# Altium schematic symbol library WR-PHD_Pin Header_2.00mm.SchLib: 63 symbols (part 1 of 2)
Pins are listed as number, name and electrical type; pins without a type are passive.

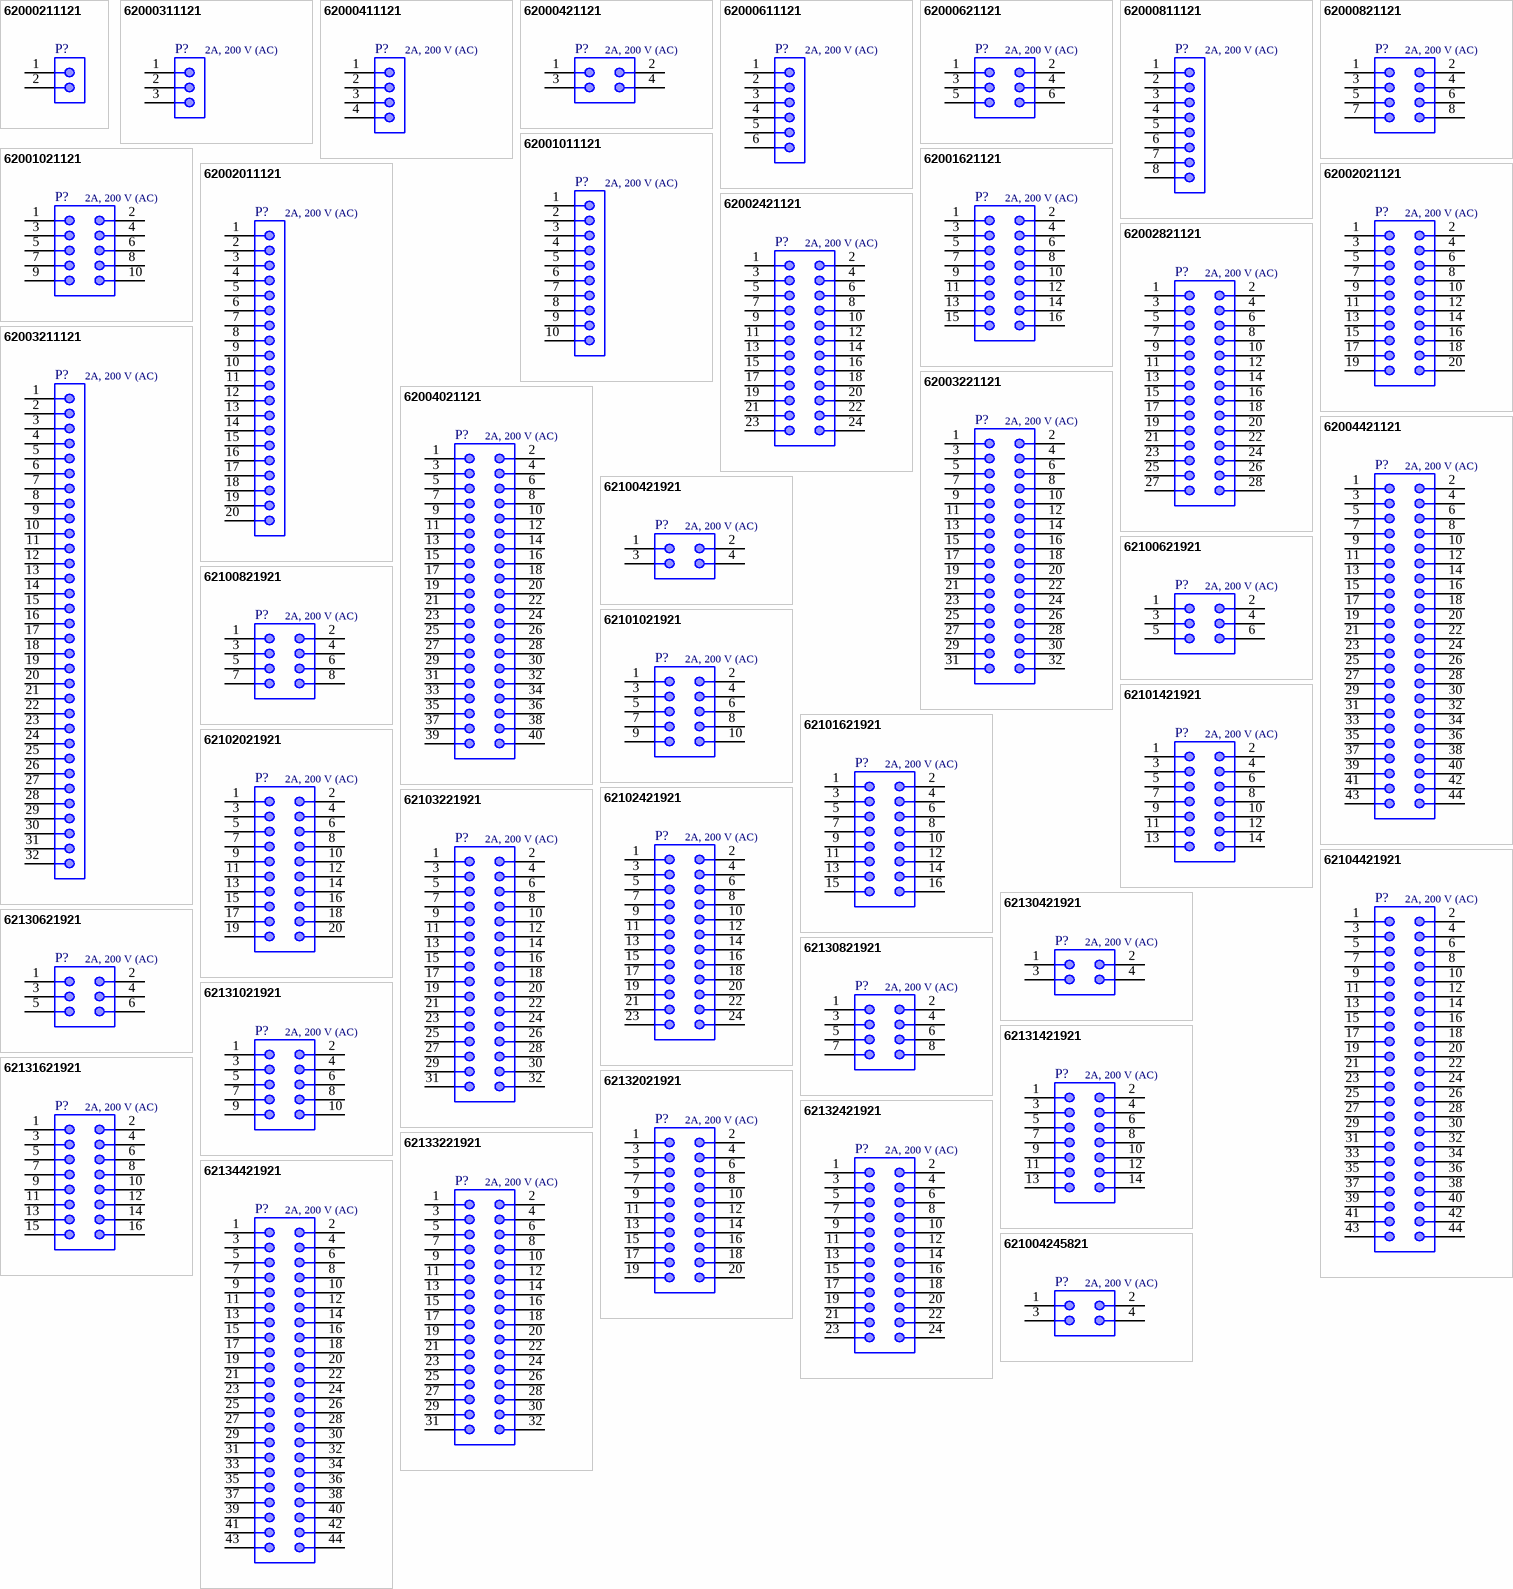
[diagram p0: symbols 62000211121 to 621004245821]

## 62000211121
designator P?
WR-PHD Pin Header, THT, pitch 2mm, Single Row, Vertical, 2p; Manufacturer: Wurth Elektronik; Manufacturer Part Number: 62000211121; Pin Number: 2; Rated Current: 2A; Working Voltage: 200VAC; Withstanding Voltage: 500VAC; Contact Resistance: 20mOhm; Value: 2A, 200 V (AC); ComponentLink1Description: Datasheet; ComponentLink1URL: https://www.we-online.com/catalog/datasheet/62000211121.pdf; Pitch: 2mm; Packaging: Bag; Gender: Pin Header; Row Number: Single; Orientation: Vertical; Supplier 1 URL: N/A; Supplier 2 URL: N/A; Supplier 3 URL: N/A; LCSC Part #: N/A; Mount: THT; Operating Temperature Max: + 105 C; Operating Temperature Min: - 40 C; Supplier 1: Mouser; Supplier 1 Part Number: N/A; Supplier 2: Digi-Key; Supplier 2 Part Number: N/A; Supplier 3: thegioiic; Supplier 3 Part Number: N/A
footprint 62000211121
pins: 1, 2

## 62000311121
designator P?, comment 2A, 200 V (AC)
WR-PHD Pin Header, THT, pitch 2mm, Single Row, Vertical, 3p; Manufacturer: Wurth Elektronik; Manufacturer Part Number: 62000311121; Pin Number: 3; Working Voltage: 200VAC; Withstanding Voltage: 500VAC; Contact Resistance: 20mOhm; ComponentLink1Description: Datasheet; ComponentLink1URL: https://www.we-online.com/catalog/datasheet/62000311121.pdf; Pitch: 2mm; Packaging: Bag; Gender: Pin Header; Rated Current: 2A; Row Number: Single; Orientation: Vertical; Supplier 1 URL: N/A; Supplier 2 URL: N/A; Supplier 3 URL: N/A; LCSC Part #: N/A; Mount: THT; Operating Temperature Max: + 105 C; Operating Temperature Min: - 40 C; Supplier 1: Mouser; Supplier 1 Part Number: N/A; Supplier 2: Digi-Key; Supplier 2 Part Number: N/A; Supplier 3: thegioiic; Supplier 3 Part Number: N/A; Value: 2A, 200 V (AC)
footprint 62000311121
pins: 1, 2, 3

## 62000411121
designator P?, comment 2A, 200 V (AC)
WR-PHD Pin Header, THT, pitch 2mm, Single Row, Vertical, 4p; Manufacturer: Wurth Elektronik; Manufacturer Part Number: 62000411121; Pin Number: 4; Working Voltage: 200VAC; Withstanding Voltage: 500VAC; Contact Resistance: 20mOhm; ComponentLink1Description: Datasheet; ComponentLink1URL: https://www.we-online.com/catalog/datasheet/62000411121.pdf; Pitch: 2mm; Packaging: Bag; Gender: Pin Header; Rated Current: 2A; Row Number: Single; Orientation: Vertical; Supplier 1 URL: N/A; Supplier 2 URL: N/A; Supplier 3 URL: N/A; LCSC Part #: N/A; Mount: THT; Operating Temperature Max: + 105 C; Operating Temperature Min: - 40 C; Supplier 1: Mouser; Supplier 1 Part Number: N/A; Supplier 2: Digi-Key; Supplier 2 Part Number: N/A; Supplier 3: thegioiic; Supplier 3 Part Number: N/A; Value: 2A, 200 V (AC)
footprint 62000411121
pins: 1, 2, 3, 4

## 62000421121
designator P?, comment 2A, 200 V (AC)
WR-PHD Pin Header, THT, pitch 2mm, Dual Row, Vertical, 4p; Manufacturer: Wurth Elektronik; Manufacturer Part Number: 62000421121; Pin Number: 4; Working Voltage: 200VAC; Withstanding Voltage: 500VAC; Contact Resistance: 20mOhm; ComponentLink1Description: Datasheet; ComponentLink1URL: https://www.we-online.com/catalog/datasheet/62000421121.pdf; Pitch: 2mm; Packaging: Bag; Gender: Pin Header; Rated Current: 2A; Row Number: Dual; Orientation: Vertical; Supplier 1 URL: N/A; Supplier 2 URL: N/A; Supplier 3 URL: N/A; LCSC Part #: N/A; Mount: THT; Operating Temperature Max: + 105 C; Operating Temperature Min: - 40 C; Supplier 1: Mouser; Supplier 1 Part Number: N/A; Supplier 2: Digi-Key; Supplier 2 Part Number: N/A; Supplier 3: thegioiic; Supplier 3 Part Number: N/A; Value: 2A, 200 V (AC)
footprint 62000421121
pins: 1, 2, 3, 4

## 62000611121
designator P?, comment 2A, 200 V (AC)
WR-PHD Pin Header, THT, pitch 2mm, Single Row, Vertical, 6p; Manufacturer: Wurth Elektronik; Manufacturer Part Number: 62000611121; Pin Number: 6; Working Voltage: 200VAC; Withstanding Voltage: 500VAC; Contact Resistance: 20mOhm; ComponentLink1Description: Datasheet; ComponentLink1URL: https://www.we-online.com/catalog/datasheet/62000611121.pdf; Pitch: 2mm; Packaging: Bag; Gender: Pin Header; Rated Current: 2A; Row Number: Single; Orientation: Vertical; Supplier 1 URL: N/A; Supplier 2 URL: N/A; Supplier 3 URL: N/A; LCSC Part #: N/A; Mount: THT; Operating Temperature Max: + 105 C; Operating Temperature Min: - 40 C; Supplier 1: Mouser; Supplier 1 Part Number: N/A; Supplier 2: Digi-Key; Supplier 2 Part Number: N/A; Supplier 3: thegioiic; Supplier 3 Part Number: N/A; Value: 2A, 200 V (AC)
footprint 62000611121
pins: 1, 2, 3, 4, 5, 6

## 62000621121
designator P?, comment 2A, 200 V (AC)
WR-PHD Pin Header, THT, pitch 2mm, Dual Row, Vertical, 6p; Manufacturer: Wurth Elektronik; Manufacturer Part Number: 62000621121; Pin Number: 6; Working Voltage: 200VAC; Withstanding Voltage: 500VAC; Contact Resistance: 20mOhm; ComponentLink1Description: Datasheet; ComponentLink1URL: https://www.we-online.com/catalog/datasheet/62000621121.pdf; Pitch: 2mm; Packaging: Bag; Gender: Pin Header; Rated Current: 2A; Row Number: Dual; Orientation: Vertical; Supplier 1 URL: N/A; Supplier 2 URL: N/A; Supplier 3 URL: N/A; LCSC Part #: N/A; Mount: THT; Operating Temperature Max: + 105 C; Operating Temperature Min: - 40 C; Supplier 1: Mouser; Supplier 1 Part Number: N/A; Supplier 2: Digi-Key; Supplier 2 Part Number: N/A; Supplier 3: thegioiic; Supplier 3 Part Number: N/A; Value: 2A, 200 V (AC)
footprint 62000621121
pins: 1, 2, 3, 4, 5, 6

## 62000811121
designator P?, comment 2A, 200 V (AC)
WR-PHD Pin Header, THT, pitch 2mm, Single Row, Vertical, 8p; Manufacturer: Wurth Elektronik; Manufacturer Part Number: 62000811121; Pin Number: 8; Working Voltage: 200VAC; Withstanding Voltage: 500VAC; Contact Resistance: 20mOhm; ComponentLink1Description: Datasheet; ComponentLink1URL: https://www.we-online.com/catalog/datasheet/62000811121.pdf; Pitch: 2mm; Packaging: Bag; Gender: Pin Header; Rated Current: 2A; Row Number: Single; Orientation: Vertical; Supplier 1 URL: N/A; Supplier 2 URL: N/A; Supplier 3 URL: N/A; LCSC Part #: N/A; Mount: THT; Operating Temperature Max: + 105 C; Operating Temperature Min: - 40 C; Supplier 1: Mouser; Supplier 1 Part Number: N/A; Supplier 2: Digi-Key; Supplier 2 Part Number: N/A; Supplier 3: thegioiic; Supplier 3 Part Number: N/A; Value: 2A, 200 V (AC)
footprint 62000811121
pins: 1, 2, 3, 4, 5, 6, 7, 8

## 62000821121
designator P?, comment 2A, 200 V (AC)
WR-PHD Pin Header, THT, pitch 2mm, Dual Row, Vertical, 8p; Manufacturer: Wurth Elektronik; Manufacturer Part Number: 62000821121; Pin Number: 8; Working Voltage: 200VAC; Withstanding Voltage: 500VAC; Contact Resistance: 20mOhm; ComponentLink1Description: Datasheet; ComponentLink1URL: https://www.we-online.com/catalog/datasheet/62000821121.pdf; Pitch: 2mm; Packaging: Bag; Gender: Pin Header; Rated Current: 2A; Row Number: Dual; Orientation: Vertical; Supplier 1 URL: N/A; Supplier 2 URL: N/A; Supplier 3 URL: N/A; LCSC Part #: N/A; Mount: THT; Operating Temperature Max: + 105 C; Operating Temperature Min: - 40 C; Supplier 1: Mouser; Supplier 1 Part Number: N/A; Supplier 2: Digi-Key; Supplier 2 Part Number: N/A; Supplier 3: thegioiic; Supplier 3 Part Number: N/A; Value: 2A, 200 V (AC)
footprint 62000821121
pins: 1, 2, 3, 4, 5, 6, 7, 8

## 62001011121
designator P?, comment 2A, 200 V (AC)
WR-PHD Pin Header, THT, pitch 2mm, Single Row, Vertical, 10p; Manufacturer: Wurth Elektronik; Manufacturer Part Number: 62001011121; Pin Number: 10; Working Voltage: 200VAC; Withstanding Voltage: 500VAC; Contact Resistance: 20mOhm; ComponentLink1Description: Datasheet; ComponentLink1URL: https://www.we-online.com/catalog/datasheet/62001011121.pdf; Pitch: 2mm; Packaging: Bag; Gender: Pin Header; Rated Current: 2A; Row Number: Single; Orientation: Vertical; Supplier 1 URL: N/A; Supplier 2 URL: N/A; Supplier 3 URL: N/A; LCSC Part #: N/A; Mount: THT; Operating Temperature Max: + 105 C; Operating Temperature Min: - 40 C; Supplier 1: Mouser; Supplier 1 Part Number: N/A; Supplier 2: Digi-Key; Supplier 2 Part Number: N/A; Supplier 3: thegioiic; Supplier 3 Part Number: N/A; Value: 2A, 200 V (AC)
footprint 62001011121
pins: 1, 2, 3, 4, 5, 6, 7, 8, 9, 10

## 62001021121
designator P?, comment 2A, 200 V (AC)
WR-PHD Pin Header, THT, pitch 2mm, Dual Row, Vertical, 10p; Manufacturer: Wurth Elektronik; Manufacturer Part Number: 62001021121; Pin Number: 10; Working Voltage: 200VAC; Withstanding Voltage: 500VAC; Contact Resistance: 20mOhm; ComponentLink1Description: Datasheet; ComponentLink1URL: https://www.we-online.com/catalog/datasheet/62001021121.pdf; Pitch: 2mm; Packaging: Bag; Gender: Pin Header; Rated Current: 2A; Row Number: Dual; Orientation: Vertical; Supplier 1 URL: N/A; Supplier 2 URL: N/A; Supplier 3 URL: N/A; LCSC Part #: N/A; Mount: THT; Operating Temperature Max: + 105 C; Operating Temperature Min: - 40 C; Supplier 1: Mouser; Supplier 1 Part Number: N/A; Supplier 2: Digi-Key; Supplier 2 Part Number: N/A; Supplier 3: thegioiic; Supplier 3 Part Number: N/A; Value: 2A, 200 V (AC)
footprint 62001021121
pins: 1, 2, 3, 4, 5, 6, 7, 8, 9, 10

## 62001621121
designator P?, comment 2A, 200 V (AC)
WR-PHD Pin Header, THT, pitch 2mm, Dual Row, Vertical, 16p; Manufacturer: Wurth Elektronik; Manufacturer Part Number: 62001621121; Pin Number: 16; Working Voltage: 200VAC; Withstanding Voltage: 500VAC; Contact Resistance: 20mOhm; ComponentLink1Description: Datasheet; ComponentLink1URL: https://www.we-online.com/catalog/datasheet/62001621121.pdf; Pitch: 2mm; Packaging: Bag; Gender: Pin Header; Rated Current: 2A; Row Number: Dual; Orientation: Vertical; Supplier 1 URL: N/A; Supplier 2 URL: N/A; Supplier 3 URL: N/A; LCSC Part #: N/A; Mount: THT; Operating Temperature Max: + 105 C; Operating Temperature Min: - 40 C; Supplier 1: Mouser; Supplier 1 Part Number: N/A; Supplier 2: Digi-Key; Supplier 2 Part Number: N/A; Supplier 3: thegioiic; Supplier 3 Part Number: N/A; Value: 2A, 200 V (AC)
footprint 62001621121
pins: 1, 2, 3, 4, 5, 6, 7, 8, 9, 10, 11, 12, 13, 14, 15, 16

## 62002011121
designator P?, comment 2A, 200 V (AC)
WR-PHD Pin Header, THT, pitch 2mm, Single Row, Vertical, 20p; Manufacturer: Wurth Elektronik; Manufacturer Part Number: 62002011121; Pin Number: 20; Working Voltage: 200VAC; Withstanding Voltage: 500VAC; Contact Resistance: 20mOhm; ComponentLink1Description: Datasheet; ComponentLink1URL: https://www.we-online.com/catalog/datasheet/62002011121.pdf; Pitch: 2mm; Packaging: Bag; Gender: Pin Header; Rated Current: 2A; Row Number: Single; Orientation: Vertical; Supplier 1 URL: N/A; Supplier 2 URL: N/A; Supplier 3 URL: N/A; LCSC Part #: N/A; Mount: THT; Operating Temperature Max: + 105 C; Operating Temperature Min: - 40 C; Supplier 1: Mouser; Supplier 1 Part Number: N/A; Supplier 2: Digi-Key; Supplier 2 Part Number: N/A; Supplier 3: thegioiic; Supplier 3 Part Number: N/A; Value: 2A, 200 V (AC)
footprint 62002011121
pins: 1, 2, 3, 4, 5, 6, 7, 8, 9, 10, 11, 12, 13, 14, 15, 16, 17, 18, 19, 20

## 62002021121
designator P?, comment 2A, 200 V (AC)
WR-PHD Pin Header, THT, pitch 2mm, Dual Row, Vertical, 20p; Manufacturer: Wurth Elektronik; Manufacturer Part Number: 62002021121; Pin Number: 20; Working Voltage: 200VAC; Withstanding Voltage: 500VAC; Contact Resistance: 20mOhm; ComponentLink1Description: Datasheet; ComponentLink1URL: https://www.we-online.com/catalog/datasheet/62002021121.pdf; Pitch: 2mm; Packaging: Bag; Gender: Pin Header; Rated Current: 2A; Row Number: Dual; Orientation: Vertical; Supplier 1 URL: N/A; Supplier 2 URL: N/A; Supplier 3 URL: N/A; LCSC Part #: N/A; Mount: THT; Operating Temperature Max: + 105 C; Operating Temperature Min: - 40 C; Supplier 1: Mouser; Supplier 1 Part Number: N/A; Supplier 2: Digi-Key; Supplier 2 Part Number: N/A; Supplier 3: thegioiic; Supplier 3 Part Number: N/A; Value: 2A, 200 V (AC)
footprint 62002021121
pins: 1, 2, 3, 4, 5, 6, 7, 8, 9, 10, 11, 12, 13, 14, 15, 16, 17, 18, 19, 20

## 62002421121
designator P?, comment 2A, 200 V (AC)
WR-PHD Pin Header, THT, pitch 2mm, Dual Row, Vertical, 24p; Manufacturer: Wurth Elektronik; Manufacturer Part Number: 62002421121; Pin Number: 24; Working Voltage: 200VAC; Withstanding Voltage: 500VAC; Contact Resistance: 20mOhm; ComponentLink1Description: Datasheet; ComponentLink1URL: https://www.we-online.com/catalog/datasheet/62002421121.pdf; Pitch: 2mm; Packaging: Bag; Gender: Pin Header; Rated Current: 2A; Row Number: Dual; Orientation: Vertical; Supplier 1 URL: N/A; Supplier 2 URL: N/A; Supplier 3 URL: N/A; LCSC Part #: N/A; Mount: THT; Operating Temperature Max: + 105 C; Operating Temperature Min: - 40 C; Supplier 1: Mouser; Supplier 1 Part Number: N/A; Supplier 2: Digi-Key; Supplier 2 Part Number: N/A; Supplier 3: thegioiic; Supplier 3 Part Number: N/A; Value: 2A, 200 V (AC)
footprint 62002421121
pins: 1, 2, 3, 4, 5, 6, 7, 8, 9, 10, 11, 12, 13, 14, 15, 16, 17, 18, 19, 20, 21, 22, 23, 24

## 62002821121
designator P?, comment 2A, 200 V (AC)
WR-PHD Pin Header, THT, pitch 2mm, Dual Row, Vertical, 28p; Manufacturer: Wurth Elektronik; Manufacturer Part Number: 62002821121; Pin Number: 28; Working Voltage: 200VAC; Withstanding Voltage: 500VAC; Contact Resistance: 20mOhm; ComponentLink1Description: Datasheet; ComponentLink1URL: https://www.we-online.com/catalog/datasheet/62002821121.pdf; Pitch: 2mm; Packaging: Bag; Gender: Pin Header; Rated Current: 2A; Row Number: Dual; Orientation: Vertical; Supplier 1 URL: N/A; Supplier 2 URL: N/A; Supplier 3 URL: N/A; LCSC Part #: N/A; Mount: THT; Operating Temperature Max: + 105 C; Operating Temperature Min: - 40 C; Supplier 1: Mouser; Supplier 1 Part Number: N/A; Supplier 2: Digi-Key; Supplier 2 Part Number: N/A; Supplier 3: thegioiic; Supplier 3 Part Number: N/A; Value: 2A, 200 V (AC)
footprint 62002821121
pins: 1, 2, 3, 4, 5, 6, 7, 8, 9, 10, 11, 12, 13, 14, 15, 16, 17, 18, 19, 20, 21, 22, 23, 24, 25, 26, 27, 28

## 62003211121
designator P?, comment 2A, 200 V (AC)
WR-PHD Pin Header, THT, pitch 2mm, Single Row, Vertical, 32p; Manufacturer: Wurth Elektronik; Manufacturer Part Number: 62003211121; Pin Number: 32; Working Voltage: 200VAC; Withstanding Voltage: 500VAC; Contact Resistance: 20mOhm; ComponentLink1Description: Datasheet; ComponentLink1URL: https://www.we-online.com/catalog/datasheet/62003211121.pdf; Pitch: 2mm; Packaging: Bag; Gender: Pin Header; Rated Current: 2A; Row Number: Single; Orientation: Vertical; Supplier 1 URL: N/A; Supplier 2 URL: N/A; Supplier 3 URL: N/A; LCSC Part #: N/A; Mount: THT; Operating Temperature Max: + 105 C; Operating Temperature Min: - 40 C; Supplier 1: Mouser; Supplier 1 Part Number: N/A; Supplier 2: Digi-Key; Supplier 2 Part Number: N/A; Supplier 3: thegioiic; Supplier 3 Part Number: N/A; Value: 2A, 200 V (AC)
footprint 62003211121
pins: 1, 2, 3, 4, 5, 6, 7, 8, 9, 10, 11, 12, 13, 14, 15, 16, 17, 18, 19, 20, 21, 22, 23, 24, 25, 26, 27, 28, 29, 30, 31, 32

## 62003221121
designator P?, comment 2A, 200 V (AC)
WR-PHD Pin Header, THT, pitch 2mm, Dual Row, Vertical, 32p; Manufacturer: Wurth Elektronik; Manufacturer Part Number: 62003221121; Pin Number: 32; Working Voltage: 200VAC; Withstanding Voltage: 500VAC; Contact Resistance: 20mOhm; ComponentLink1Description: Datasheet; ComponentLink1URL: https://www.we-online.com/catalog/datasheet/62003221121.pdf; Pitch: 2mm; Packaging: Bag; Gender: Pin Header; Rated Current: 2A; Row Number: Dual; Orientation: Vertical; Supplier 1 URL: N/A; Supplier 2 URL: N/A; Supplier 3 URL: N/A; LCSC Part #: N/A; Mount: THT; Operating Temperature Max: + 105 C; Operating Temperature Min: - 40 C; Supplier 1: Mouser; Supplier 1 Part Number: N/A; Supplier 2: Digi-Key; Supplier 2 Part Number: N/A; Supplier 3: thegioiic; Supplier 3 Part Number: N/A; Value: 2A, 200 V (AC)
footprint 62003221121
pins: 1, 2, 3, 4, 5, 6, 7, 8, 9, 10, 11, 12, 13, 14, 15, 16, 17, 18, 19, 20, 21, 22, 23, 24, 25, 26, 27, 28, 29, 30, 31, 32

## 62004021121
designator P?, comment 2A, 200 V (AC)
WR-PHD Pin Header, THT, pitch 2mm, Dual Row, Vertical, 40p; Manufacturer: Wurth Elektronik; Manufacturer Part Number: 62004021121; Pin Number: 40; Working Voltage: 200VAC; Withstanding Voltage: 500VAC; Contact Resistance: 20mOhm; ComponentLink1Description: Datasheet; ComponentLink1URL: https://www.we-online.com/catalog/datasheet/62004021121.pdf; Pitch: 2mm; Packaging: Bag; Gender: Pin Header; Rated Current: 2A; Row Number: Dual; Orientation: Vertical; Supplier 1 URL: N/A; Supplier 2 URL: N/A; Supplier 3 URL: N/A; LCSC Part #: N/A; Mount: THT; Operating Temperature Max: + 105 C; Operating Temperature Min: - 40 C; Supplier 1: Mouser; Supplier 1 Part Number: N/A; Supplier 2: Digi-Key; Supplier 2 Part Number: N/A; Supplier 3: thegioiic; Supplier 3 Part Number: N/A; Value: 2A, 200 V (AC)
footprint 62004021121
pins: 1, 2, 3, 4, 5, 6, 7, 8, 9, 10, 11, 12, 13, 14, 15, 16, 17, 18, 19, 20, 21, 22, 23, 24, 25, 26, 27, 28, 29, 30, 31, 32, 33, 34, 35, 36, 37, 38, 39, 40

## 62004421121
designator P?, comment 2A, 200 V (AC)
WR-PHD Pin Header, THT, pitch 2mm, Dual Row, Vertical, 44p; Manufacturer: Wurth Elektronik; Manufacturer Part Number: 62004421121; Pin Number: 44; Working Voltage: 200VAC; Withstanding Voltage: 500VAC; Contact Resistance: 20mOhm; ComponentLink1Description: Datasheet; ComponentLink1URL: https://www.we-online.com/catalog/datasheet/62004421121.pdf; Pitch: 2mm; Packaging: Bag; Gender: Pin Header; Rated Current: 2A; Row Number: Dual; Orientation: Vertical; Supplier 1 URL: N/A; Supplier 2 URL: N/A; Supplier 3 URL: N/A; LCSC Part #: N/A; Mount: THT; Operating Temperature Max: + 105 C; Operating Temperature Min: - 40 C; Supplier 1: Mouser; Supplier 1 Part Number: N/A; Supplier 2: Digi-Key; Supplier 2 Part Number: N/A; Supplier 3: thegioiic; Supplier 3 Part Number: N/A; Value: 2A, 200 V (AC)
footprint 62004421121
pins: 1, 2, 3, 4, 5, 6, 7, 8, 9, 10, 11, 12, 13, 14, 15, 16, 17, 18, 19, 20, 21, 22, 23, 24, 25, 26, 27, 28, 29, 30, 31, 32, 33, 34, 35, 36, 37, 38, 39, 40, 41, 42, 43, 44

## 62100421921
designator P?, comment 2A, 200 V (AC)
WR-PHD Pin Header, SMT, pitch 2mm, Dual Row, Vertical, 4p; Manufacturer: Wurth Elektronik; Manufacturer Part Number: 62100421921; Pin Number: 4; Working Voltage: 200VAC; Withstanding Voltage: 500VAC; Contact Resistance: 20mOhm; ComponentLink1Description: Datasheet; ComponentLink1URL: https://www.we-online.com/catalog/datasheet/62100421921.pdf; Pitch: 2mm; Packaging: Tube; Gender: Pin Header; Rated Current: 2A; Row Number: Dual; Orientation: Vertical; Supplier 1 URL: N/A; Supplier 2 URL: N/A; Supplier 3 URL: N/A; LCSC Part #: N/A; Mount: SMD/SMT; Operating Temperature Max: + 105 C; Operating Temperature Min: - 40 C; Supplier 1: Mouser; Supplier 1 Part Number: N/A; Supplier 2: Digi-Key; Supplier 2 Part Number: N/A; Supplier 3: thegioiic; Supplier 3 Part Number: N/A; Value: 2A, 200 V (AC)
footprint 62100421921
pins: 1, 2, 3, 4

## 62100621921
designator P?, comment 2A, 200 V (AC)
WR-PHD Pin Header, SMT, pitch 2mm, Dual Row, Vertical, 6p; Manufacturer: Wurth Elektronik; Manufacturer Part Number: 62100621921; Pin Number: 6; Working Voltage: 200VAC; Withstanding Voltage: 500VAC; Contact Resistance: 20mOhm; ComponentLink1Description: Datasheet; ComponentLink1URL: https://www.we-online.com/catalog/datasheet/62100621921.pdf; Pitch: 2mm; Packaging: Tube; Gender: Pin Header; Rated Current: 2A; Row Number: Dual; Orientation: Vertical; Supplier 1 URL: N/A; Supplier 2 URL: N/A; Supplier 3 URL: N/A; LCSC Part #: N/A; Mount: SMD/SMT; Operating Temperature Max: + 105 C; Operating Temperature Min: - 40 C; Supplier 1: Mouser; Supplier 1 Part Number: N/A; Supplier 2: Digi-Key; Supplier 2 Part Number: N/A; Supplier 3: thegioiic; Supplier 3 Part Number: N/A; Value: 2A, 200 V (AC)
footprint 62100621921
pins: 1, 2, 3, 4, 5, 6

## 62100821921
designator P?, comment 2A, 200 V (AC)
WR-PHD Pin Header, SMT, pitch 2mm, Dual Row, Vertical, 8p; Manufacturer: Wurth Elektronik; Manufacturer Part Number: 62100821921; Pin Number: 8; Working Voltage: 200VAC; Withstanding Voltage: 500VAC; Contact Resistance: 20mOhm; ComponentLink1Description: Datasheet; ComponentLink1URL: https://www.we-online.com/catalog/datasheet/62100821921.pdf; Pitch: 2mm; Packaging: Tube; Gender: Pin Header; Rated Current: 2A; Row Number: Dual; Orientation: Vertical; Supplier 1 URL: N/A; Supplier 2 URL: N/A; Supplier 3 URL: N/A; LCSC Part #: N/A; Mount: SMD/SMT; Operating Temperature Max: + 105 C; Operating Temperature Min: - 40 C; Supplier 1: Mouser; Supplier 1 Part Number: N/A; Supplier 2: Digi-Key; Supplier 2 Part Number: N/A; Supplier 3: thegioiic; Supplier 3 Part Number: N/A; Value: 2A, 200 V (AC)
footprint 62100821921
pins: 1, 2, 3, 4, 5, 6, 7, 8

## 62101021921
designator P?, comment 2A, 200 V (AC)
WR-PHD Pin Header, SMT, pitch 2mm, Dual Row, Vertical, 10p; Manufacturer: Wurth Elektronik; Manufacturer Part Number: 62101021921; Pin Number: 10; Working Voltage: 200VAC; Withstanding Voltage: 500VAC; Contact Resistance: 20mOhm; ComponentLink1Description: Datasheet; ComponentLink1URL: https://www.we-online.com/catalog/datasheet/62101021921.pdf; Pitch: 2mm; Packaging: Tube; Gender: Pin Header; Rated Current: 2A; Row Number: Dual; Orientation: Vertical; Supplier 1 URL: N/A; Supplier 2 URL: N/A; Supplier 3 URL: N/A; LCSC Part #: N/A; Mount: SMD/SMT; Operating Temperature Max: + 105 C; Operating Temperature Min: - 40 C; Supplier 1: Mouser; Supplier 1 Part Number: N/A; Supplier 2: Digi-Key; Supplier 2 Part Number: N/A; Supplier 3: thegioiic; Supplier 3 Part Number: N/A; Value: 2A, 200 V (AC)
footprint 62101021921
pins: 1, 2, 3, 4, 5, 6, 7, 8, 9, 10

## 62101421921
designator P?, comment 2A, 200 V (AC)
WR-PHD Pin Header, SMT, pitch 2mm, Dual Row, Vertical, 14p; Manufacturer: Wurth Elektronik; Manufacturer Part Number: 62101421921; Pin Number: 14; Working Voltage: 200VAC; Withstanding Voltage: 500VAC; Contact Resistance: 20mOhm; ComponentLink1Description: Datasheet; ComponentLink1URL: https://www.we-online.com/catalog/datasheet/62101421921.pdf; Pitch: 2mm; Packaging: Tube; Gender: Pin Header; Rated Current: 2A; Row Number: Dual; Orientation: Vertical; Supplier 1 URL: N/A; Supplier 2 URL: N/A; Supplier 3 URL: N/A; LCSC Part #: N/A; Mount: SMD/SMT; Operating Temperature Max: + 105 C; Operating Temperature Min: - 40 C; Supplier 1: Mouser; Supplier 1 Part Number: N/A; Supplier 2: Digi-Key; Supplier 2 Part Number: N/A; Supplier 3: thegioiic; Supplier 3 Part Number: N/A; Value: 2A, 200 V (AC)
footprint 62101421921
pins: 1, 2, 3, 4, 5, 6, 7, 8, 9, 10, 11, 12, 13, 14

## 62101621921
designator P?, comment 2A, 200 V (AC)
WR-PHD Pin Header, SMT, pitch 2mm, Dual Row, Vertical, 16p; Manufacturer: Wurth Elektronik; Manufacturer Part Number: 62101621921; Pin Number: 16; Working Voltage: 200VAC; Withstanding Voltage: 500VAC; Contact Resistance: 20mOhm; ComponentLink1Description: Datasheet; ComponentLink1URL: https://www.we-online.com/catalog/datasheet/62101621921.pdf; Pitch: 2mm; Packaging: Tube; Gender: Pin Header; Rated Current: 2A; Row Number: Dual; Orientation: Vertical; Supplier 1 URL: N/A; Supplier 2 URL: N/A; Supplier 3 URL: N/A; LCSC Part #: N/A; Mount: SMD/SMT; Operating Temperature Max: + 105 C; Operating Temperature Min: - 40 C; Supplier 1: Mouser; Supplier 1 Part Number: N/A; Supplier 2: Digi-Key; Supplier 2 Part Number: N/A; Supplier 3: thegioiic; Supplier 3 Part Number: N/A; Value: 2A, 200 V (AC)
footprint 62101621921
pins: 1, 2, 3, 4, 5, 6, 7, 8, 9, 10, 11, 12, 13, 14, 15, 16

## 62102021921
designator P?, comment 2A, 200 V (AC)
WR-PHD Pin Header, SMT, pitch 2mm, Dual Row, Vertical, 20p; Manufacturer: Wurth Elektronik; Manufacturer Part Number: 62102021921; Pin Number: 20; Working Voltage: 200VAC; Withstanding Voltage: 500VAC; Contact Resistance: 20mOhm; ComponentLink1Description: Datasheet; ComponentLink1URL: https://www.we-online.com/catalog/datasheet/62102021921.pdf; Pitch: 2mm; Packaging: Tube; Gender: Pin Header; Rated Current: 2A; Row Number: Dual; Orientation: Vertical; Supplier 1 URL: N/A; Supplier 2 URL: N/A; Supplier 3 URL: N/A; LCSC Part #: N/A; Mount: SMD/SMT; Operating Temperature Max: + 105 C; Operating Temperature Min: - 40 C; Supplier 1: Mouser; Supplier 1 Part Number: N/A; Supplier 2: Digi-Key; Supplier 2 Part Number: N/A; Supplier 3: thegioiic; Supplier 3 Part Number: N/A; Value: 2A, 200 V (AC)
footprint 62102021921
pins: 1, 2, 3, 4, 5, 6, 7, 8, 9, 10, 11, 12, 13, 14, 15, 16, 17, 18, 19, 20

## 62102421921
designator P?, comment 2A, 200 V (AC)
WR-PHD Pin Header, SMT, pitch 2mm, Dual Row, Vertical, 24p; Manufacturer: Wurth Elektronik; Manufacturer Part Number: 62102421921; Pin Number: 24; Working Voltage: 200VAC; Withstanding Voltage: 500VAC; Contact Resistance: 20mOhm; ComponentLink1Description: Datasheet; ComponentLink1URL: https://www.we-online.com/catalog/datasheet/62102421921.pdf; Pitch: 2mm; Packaging: Tube; Gender: Pin Header; Rated Current: 2A; Row Number: Dual; Orientation: Vertical; Supplier 1 URL: N/A; Supplier 2 URL: N/A; Supplier 3 URL: N/A; LCSC Part #: N/A; Mount: SMD/SMT; Operating Temperature Max: + 105 C; Operating Temperature Min: - 40 C; Supplier 1: Mouser; Supplier 1 Part Number: N/A; Supplier 2: Digi-Key; Supplier 2 Part Number: N/A; Supplier 3: thegioiic; Supplier 3 Part Number: N/A; Value: 2A, 200 V (AC)
footprint 62102421921
pins: 1, 2, 3, 4, 5, 6, 7, 8, 9, 10, 11, 12, 13, 14, 15, 16, 17, 18, 19, 20, 21, 22, 23, 24

## 62103221921
designator P?, comment 2A, 200 V (AC)
WR-PHD Pin Header, SMT, pitch 2mm, Dual Row, Vertical, 32p; Manufacturer: Wurth Elektronik; Manufacturer Part Number: 62103221921; Pin Number: 32; Working Voltage: 200VAC; Withstanding Voltage: 500VAC; Contact Resistance: 20mOhm; ComponentLink1Description: Datasheet; ComponentLink1URL: https://www.we-online.com/catalog/datasheet/62103221921.pdf; Pitch: 2mm; Packaging: Tube; Gender: Pin Header; Rated Current: 2A; Row Number: Dual; Orientation: Vertical; Supplier 1 URL: N/A; Supplier 2 URL: N/A; Supplier 3 URL: N/A; LCSC Part #: N/A; Mount: SMD/SMT; Operating Temperature Max: + 105 C; Operating Temperature Min: - 40 C; Supplier 1: Mouser; Supplier 1 Part Number: N/A; Supplier 2: Digi-Key; Supplier 2 Part Number: N/A; Supplier 3: thegioiic; Supplier 3 Part Number: N/A; Value: 2A, 200 V (AC)
footprint 62103221921
pins: 1, 2, 3, 4, 5, 6, 7, 8, 9, 10, 11, 12, 13, 14, 15, 16, 17, 18, 19, 20, 21, 22, 23, 24, 25, 26, 27, 28, 29, 30, 31, 32

## 62104421921
designator P?, comment 2A, 200 V (AC)
WR-PHD Pin Header, SMT, pitch 2mm, Dual Row, Vertical, 44p; Manufacturer: Wurth Elektronik; Manufacturer Part Number: 62104421921; Pin Number: 44; Working Voltage: 200VAC; Withstanding Voltage: 500VAC; Contact Resistance: 20mOhm; ComponentLink1Description: Datasheet; ComponentLink1URL: https://www.we-online.com/catalog/datasheet/62104421921.pdf; Pitch: 2mm; Packaging: Tube; Gender: Pin Header; Rated Current: 2A; Row Number: Dual; Orientation: Vertical; Supplier 1 URL: N/A; Supplier 2 URL: N/A; Supplier 3 URL: N/A; LCSC Part #: N/A; Mount: SMD/SMT; Operating Temperature Max: + 105 C; Operating Temperature Min: - 40 C; Supplier 1: Mouser; Supplier 1 Part Number: N/A; Supplier 2: Digi-Key; Supplier 2 Part Number: N/A; Supplier 3: thegioiic; Supplier 3 Part Number: N/A; Value: 2A, 200 V (AC)
footprint 62104421921
pins: 1, 2, 3, 4, 5, 6, 7, 8, 9, 10, 11, 12, 13, 14, 15, 16, 17, 18, 19, 20, 21, 22, 23, 24, 25, 26, 27, 28, 29, 30, 31, 32, 33, 34, 35, 36, 37, 38, 39, 40, 41, 42, 43, 44

## 62130421921
designator P?, comment 2A, 200 V (AC)
WR-PHD Pin Header, SMT, pitch 2mm, Dual Row, Vertical, 4p; Manufacturer: Wurth Elektronik; Manufacturer Part Number: 62130421921; Pin Number: 4; Working Voltage: 200VAC; Withstanding Voltage: 500VAC; Contact Resistance: 20mOhm; ComponentLink1Description: Datasheet; ComponentLink1URL: https://www.we-online.com/catalog/datasheet/62130421921.pdf; Pitch: 2mm; Packaging: Tape and Reel; Gender: Pin Header; Rated Current: 2A; Row Number: Dual; Orientation: Vertical; Supplier 1 URL: N/A; Supplier 2 URL: N/A; Supplier 3 URL: N/A; LCSC Part #: N/A; Mount: SMD/SMT; Operating Temperature Max: + 105 C; Operating Temperature Min: - 40 C; Supplier 1: Mouser; Supplier 1 Part Number: N/A; Supplier 2: Digi-Key; Supplier 2 Part Number: N/A; Supplier 3: thegioiic; Supplier 3 Part Number: N/A; Value: 2A, 200 V (AC)
footprint 62130421921
pins: 1, 2, 3, 4

## 62130621921
designator P?, comment 2A, 200 V (AC)
WR-PHD Pin Header, SMT, pitch 2mm, Dual Row, Vertical, 6p; Manufacturer: Wurth Elektronik; Manufacturer Part Number: 62130621921; Pin Number: 6; Working Voltage: 200VAC; Withstanding Voltage: 500VAC; Contact Resistance: 20mOhm; ComponentLink1Description: Datasheet; ComponentLink1URL: https://www.we-online.com/catalog/datasheet/62130621921.pdf; Pitch: 2mm; Packaging: Tape and Reel; Gender: Pin Header; Rated Current: 2A; Row Number: Dual; Orientation: Vertical; Supplier 1 URL: N/A; Supplier 2 URL: N/A; Supplier 3 URL: N/A; LCSC Part #: N/A; Mount: SMD/SMT; Operating Temperature Max: + 105 C; Operating Temperature Min: - 40 C; Supplier 1: Mouser; Supplier 1 Part Number: N/A; Supplier 2: Digi-Key; Supplier 2 Part Number: N/A; Supplier 3: thegioiic; Supplier 3 Part Number: N/A; Value: 2A, 200 V (AC)
footprint 62130621921
pins: 1, 2, 3, 4, 5, 6

## 62130821921
designator P?, comment 2A, 200 V (AC)
WR-PHD Pin Header, SMT, pitch 2mm, Dual Row, Vertical, 8p; Manufacturer: Wurth Elektronik; Manufacturer Part Number: 62130821921; Pin Number: 8; Working Voltage: 200VAC; Withstanding Voltage: 500VAC; Contact Resistance: 20mOhm; ComponentLink1Description: Datasheet; ComponentLink1URL: https://www.we-online.com/catalog/datasheet/62130821921.pdf; Pitch: 2mm; Packaging: Tape and Reel; Gender: Pin Header; Rated Current: 2A; Row Number: Dual; Orientation: Vertical; Supplier 1 URL: N/A; Supplier 2 URL: N/A; Supplier 3 URL: N/A; LCSC Part #: N/A; Mount: SMD/SMT; Operating Temperature Max: + 105 C; Operating Temperature Min: - 40 C; Supplier 1: Mouser; Supplier 1 Part Number: N/A; Supplier 2: Digi-Key; Supplier 2 Part Number: N/A; Supplier 3: thegioiic; Supplier 3 Part Number: N/A; Value: 2A, 200 V (AC)
footprint 62130821921
pins: 1, 2, 3, 4, 5, 6, 7, 8

## 62131021921
designator P?, comment 2A, 200 V (AC)
WR-PHD Pin Header, SMT, pitch 2mm, Dual Row, Vertical, 10p; Manufacturer: Wurth Elektronik; Manufacturer Part Number: 62131021921; Pin Number: 10; Working Voltage: 200VAC; Withstanding Voltage: 500VAC; Contact Resistance: 20mOhm; ComponentLink1Description: Datasheet; ComponentLink1URL: https://www.we-online.com/catalog/datasheet/62131021921.pdf; Pitch: 2mm; Packaging: Tape and Reel; Gender: Pin Header; Rated Current: 2A; Row Number: Dual; Orientation: Vertical; Supplier 1 URL: N/A; Supplier 2 URL: N/A; Supplier 3 URL: N/A; LCSC Part #: N/A; Mount: SMD/SMT; Operating Temperature Max: + 105 C; Operating Temperature Min: - 40 C; Supplier 1: Mouser; Supplier 1 Part Number: N/A; Supplier 2: Digi-Key; Supplier 2 Part Number: N/A; Supplier 3: thegioiic; Supplier 3 Part Number: N/A; Value: 2A, 200 V (AC)
footprint 62131021921
pins: 1, 2, 3, 4, 5, 6, 7, 8, 9, 10

## 62131421921
designator P?, comment 2A, 200 V (AC)
WR-PHD Pin Header, SMT, pitch 2mm, Dual Row, Vertical, 14p; Manufacturer: Wurth Elektronik; Manufacturer Part Number: 62131421921; Pin Number: 14; Working Voltage: 200VAC; Withstanding Voltage: 500VAC; Contact Resistance: 20mOhm; ComponentLink1Description: Datasheet; ComponentLink1URL: https://www.we-online.com/catalog/datasheet/62131421921.pdf; Pitch: 2mm; Packaging: Tape and Reel; Gender: Pin Header; Rated Current: 2A; Row Number: Dual; Orientation: Vertical; Supplier 1 URL: N/A; Supplier 2 URL: N/A; Supplier 3 URL: N/A; LCSC Part #: N/A; Mount: SMD/SMT; Operating Temperature Max: + 105 C; Operating Temperature Min: - 40 C; Supplier 1: Mouser; Supplier 1 Part Number: N/A; Supplier 2: Digi-Key; Supplier 2 Part Number: N/A; Supplier 3: thegioiic; Supplier 3 Part Number: N/A; Value: 2A, 200 V (AC)
footprint 62131421921
pins: 1, 2, 3, 4, 5, 6, 7, 8, 9, 10, 11, 12, 13, 14

## 62131621921
designator P?, comment 2A, 200 V (AC)
WR-PHD Pin Header, SMT, pitch 2mm, Dual Row, Vertical, 16p; Manufacturer: Wurth Elektronik; Manufacturer Part Number: 62131621921; Pin Number: 16; Working Voltage: 200VAC; Withstanding Voltage: 500VAC; Contact Resistance: 20mOhm; ComponentLink1Description: Datasheet; ComponentLink1URL: https://www.we-online.com/catalog/datasheet/62131621921.pdf; Pitch: 2mm; Packaging: Tape and Reel; Gender: Pin Header; Rated Current: 2A; Row Number: Dual; Orientation: Vertical; Supplier 1 URL: N/A; Supplier 2 URL: N/A; Supplier 3 URL: N/A; LCSC Part #: N/A; Mount: SMD/SMT; Operating Temperature Max: + 105 C; Operating Temperature Min: - 40 C; Supplier 1: Mouser; Supplier 1 Part Number: N/A; Supplier 2: Digi-Key; Supplier 2 Part Number: N/A; Supplier 3: thegioiic; Supplier 3 Part Number: N/A; Value: 2A, 200 V (AC)
footprint 62131621921
pins: 1, 2, 3, 4, 5, 6, 7, 8, 9, 10, 11, 12, 13, 14, 15, 16

## 62132021921
designator P?, comment 2A, 200 V (AC)
WR-PHD Pin Header, SMT, pitch 2mm, Dual Row, Vertical, 20p; Manufacturer: Wurth Elektronik; Manufacturer Part Number: 62132021921; Pin Number: 20; Working Voltage: 200VAC; Withstanding Voltage: 500VAC; Contact Resistance: 20mOhm; ComponentLink1Description: Datasheet; ComponentLink1URL: https://www.we-online.com/catalog/datasheet/62132021921.pdf; Pitch: 2mm; Packaging: Tape and Reel; Gender: Pin Header; Rated Current: 2A; Row Number: Dual; Orientation: Vertical; Supplier 1 URL: N/A; Supplier 2 URL: N/A; Supplier 3 URL: N/A; LCSC Part #: N/A; Mount: SMD/SMT; Operating Temperature Max: + 105 C; Operating Temperature Min: - 40 C; Supplier 1: Mouser; Supplier 1 Part Number: N/A; Supplier 2: Digi-Key; Supplier 2 Part Number: N/A; Supplier 3: thegioiic; Supplier 3 Part Number: N/A; Value: 2A, 200 V (AC)
footprint 62132021921
pins: 1, 2, 3, 4, 5, 6, 7, 8, 9, 10, 11, 12, 13, 14, 15, 16, 17, 18, 19, 20

## 62132421921
designator P?, comment 2A, 200 V (AC)
WR-PHD Pin Header, SMT, pitch 2mm, Dual Row, Vertical, 24p; Manufacturer: Wurth Elektronik; Manufacturer Part Number: 62132421921; Pin Number: 24; Working Voltage: 200VAC; Withstanding Voltage: 500VAC; Contact Resistance: 20mOhm; ComponentLink1Description: Datasheet; ComponentLink1URL: https://www.we-online.com/catalog/datasheet/62132421921.pdf; Pitch: 2mm; Packaging: Tape and Reel; Gender: Pin Header; Rated Current: 2A; Row Number: Dual; Orientation: Vertical; Supplier 1 URL: N/A; Supplier 2 URL: N/A; Supplier 3 URL: N/A; LCSC Part #: N/A; Mount: SMD/SMT; Operating Temperature Max: + 105 C; Operating Temperature Min: - 40 C; Supplier 1: Mouser; Supplier 1 Part Number: N/A; Supplier 2: Digi-Key; Supplier 2 Part Number: N/A; Supplier 3: thegioiic; Supplier 3 Part Number: N/A; Value: 2A, 200 V (AC)
footprint 62132421921
pins: 1, 2, 3, 4, 5, 6, 7, 8, 9, 10, 11, 12, 13, 14, 15, 16, 17, 18, 19, 20, 21, 22, 23, 24

## 62133221921
designator P?, comment 2A, 200 V (AC)
WR-PHD Pin Header, SMT, pitch 2mm, Dual Row, Vertical, 32p; Manufacturer: Wurth Elektronik; Manufacturer Part Number: 62133221921; Pin Number: 32; Working Voltage: 200VAC; Withstanding Voltage: 500VAC; Contact Resistance: 20mOhm; ComponentLink1Description: Datasheet; ComponentLink1URL: https://www.we-online.com/catalog/datasheet/62133221921.pdf; Pitch: 2mm; Packaging: Tape and Reel; Gender: Pin Header; Rated Current: 2A; Row Number: Dual; Orientation: Vertical; Supplier 1 URL: N/A; Supplier 2 URL: N/A; Supplier 3 URL: N/A; LCSC Part #: N/A; Mount: SMD/SMT; Operating Temperature Max: + 105 C; Operating Temperature Min: - 40 C; Supplier 1: Mouser; Supplier 1 Part Number: N/A; Supplier 2: Digi-Key; Supplier 2 Part Number: N/A; Supplier 3: thegioiic; Supplier 3 Part Number: N/A; Value: 2A, 200 V (AC)
footprint 62133221921
pins: 1, 2, 3, 4, 5, 6, 7, 8, 9, 10, 11, 12, 13, 14, 15, 16, 17, 18, 19, 20, 21, 22, 23, 24, 25, 26, 27, 28, 29, 30, 31, 32

## 62134421921
designator P?, comment 2A, 200 V (AC)
WR-PHD Pin Header, SMT, pitch 2mm, Dual Row, Vertical, 44p; Manufacturer: Wurth Elektronik; Manufacturer Part Number: 62134421921; Pin Number: 44; Working Voltage: 200VAC; Withstanding Voltage: 500VAC; Contact Resistance: 20mOhm; ComponentLink1Description: Datasheet; ComponentLink1URL: https://www.we-online.com/catalog/datasheet/62134421921.pdf; Pitch: 2mm; Packaging: Tape and Reel; Gender: Pin Header; Rated Current: 2A; Row Number: Dual; Orientation: Vertical; Supplier 1 URL: N/A; Supplier 2 URL: N/A; Supplier 3 URL: N/A; LCSC Part #: N/A; Mount: SMD/SMT; Operating Temperature Max: + 105 C; Operating Temperature Min: - 40 C; Supplier 1: Mouser; Supplier 1 Part Number: N/A; Supplier 2: Digi-Key; Supplier 2 Part Number: N/A; Supplier 3: thegioiic; Supplier 3 Part Number: N/A; Value: 2A, 200 V (AC)
footprint 62134421921
pins: 1, 2, 3, 4, 5, 6, 7, 8, 9, 10, 11, 12, 13, 14, 15, 16, 17, 18, 19, 20, 21, 22, 23, 24, 25, 26, 27, 28, 29, 30, 31, 32, 33, 34, 35, 36, 37, 38, 39, 40, 41, 42, 43, 44

## 621004245821
designator P?, comment 2A, 200 V (AC)
WR-PHD Pin Header, SMT, pitch 2mm, Dual Row, Vertical, 4p; Manufacturer: Wurth Elektronik; Manufacturer Part Number: 621004245821; Pin Number: 4; Working Voltage: 200VAC; Withstanding Voltage: 500VAC; Contact Resistance: 20mOhm; ComponentLink1Description: Datasheet; ComponentLink1URL: https://www.we-online.com/catalog/datasheet/621004245821.pdf; Pitch: 2mm; Packaging: Tube; Gender: Pin Header; Rated Current: 2A; Row Number: Dual; Orientation: Vertical; Supplier 1 URL: N/A; Supplier 2 URL: N/A; Supplier 3 URL: N/A; LCSC Part #: N/A; Mount: SMD/SMT; Operating Temperature Max: + 105 C; Operating Temperature Min: - 40 C; Supplier 1: Mouser; Supplier 1 Part Number: N/A; Supplier 2: Digi-Key; Supplier 2 Part Number: N/A; Supplier 3: thegioiic; Supplier 3 Part Number: N/A; Value: 2A, 200 V (AC)
footprint 621004245821
pins: 1, 2, 3, 4

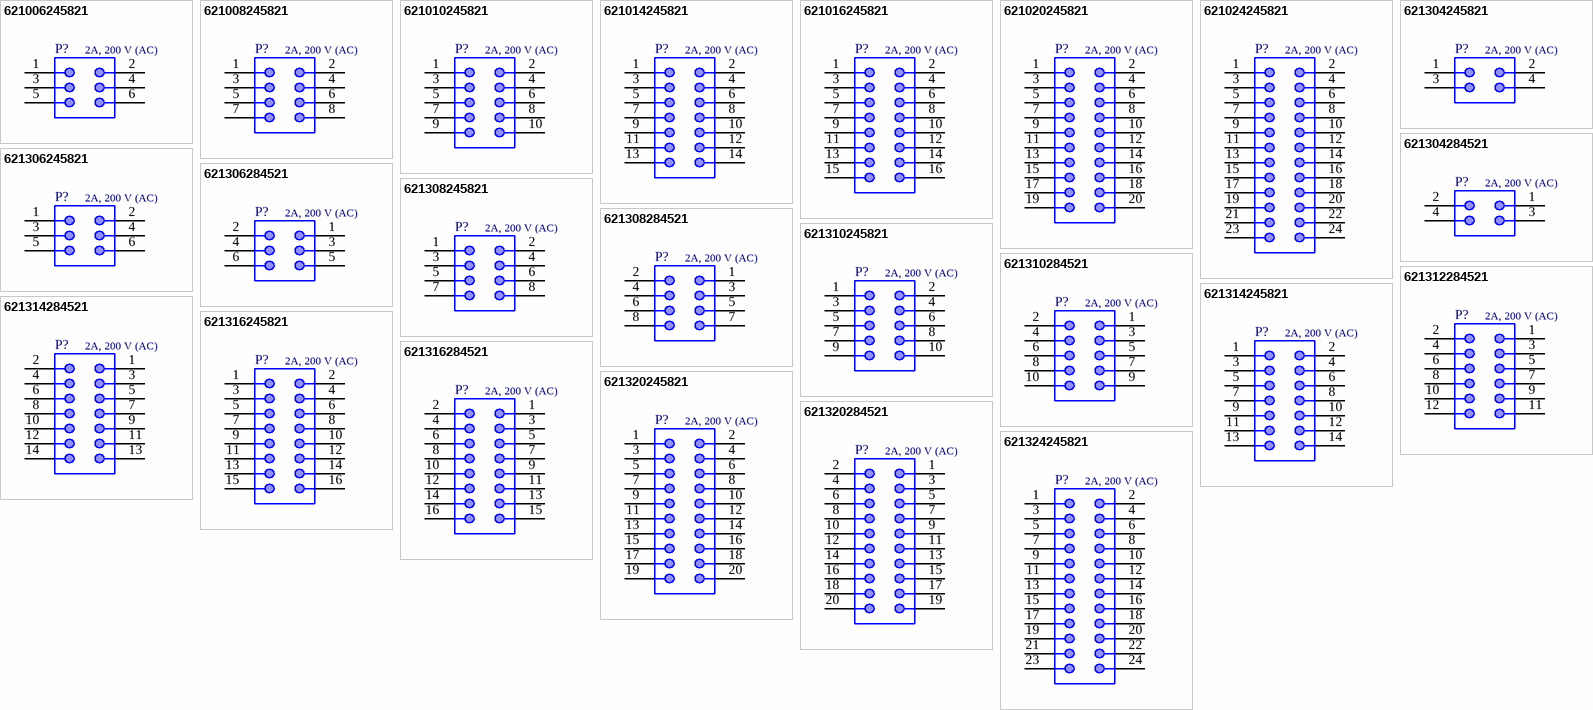
[diagram p1: symbols 621006245821 to 621324245821]

## 621006245821
designator P?, comment 2A, 200 V (AC)
WR-PHD Pin Header, SMT, pitch 2mm, Dual Row, Vertical, 6p; Manufacturer: Wurth Elektronik; Manufacturer Part Number: 621006245821; Pin Number: 6; Working Voltage: 200VAC; Withstanding Voltage: 500VAC; Contact Resistance: 20mOhm; ComponentLink1Description: Datasheet; ComponentLink1URL: https://www.we-online.com/catalog/datasheet/621006245821.pdf; Pitch: 2mm; Packaging: Tube; Gender: Pin Header; Rated Current: 2A; Row Number: Dual; Orientation: Vertical; Supplier 1 URL: N/A; Supplier 2 URL: N/A; Supplier 3 URL: N/A; LCSC Part #: N/A; Mount: SMD/SMT; Operating Temperature Max: + 105 C; Operating Temperature Min: - 40 C; Supplier 1: Mouser; Supplier 1 Part Number: N/A; Supplier 2: Digi-Key; Supplier 2 Part Number: N/A; Supplier 3: thegioiic; Supplier 3 Part Number: N/A; Value: 2A, 200 V (AC)
footprint 621006245821
pins: 1, 2, 3, 4, 5, 6

## 621008245821
designator P?, comment 2A, 200 V (AC)
WR-PHD Pin Header, SMT, pitch 2mm, Dual Row, Vertical, 8p; Manufacturer: Wurth Elektronik; Manufacturer Part Number: 621008245821; Pin Number: 8; Working Voltage: 200VAC; Withstanding Voltage: 500VAC; Contact Resistance: 20mOhm; ComponentLink1Description: Datasheet; ComponentLink1URL: https://www.we-online.com/catalog/datasheet/621008245821.pdf; Pitch: 2mm; Packaging: Tube; Gender: Pin Header; Rated Current: 2A; Row Number: Dual; Orientation: Vertical; Supplier 1 URL: N/A; Supplier 2 URL: N/A; Supplier 3 URL: N/A; LCSC Part #: N/A; Mount: SMD/SMT; Operating Temperature Max: + 105 C; Operating Temperature Min: - 40 C; Supplier 1: Mouser; Supplier 1 Part Number: N/A; Supplier 2: Digi-Key; Supplier 2 Part Number: N/A; Supplier 3: thegioiic; Supplier 3 Part Number: N/A; Value: 2A, 200 V (AC)
footprint 621008245821
pins: 1, 2, 3, 4, 5, 6, 7, 8

## 621010245821
designator P?, comment 2A, 200 V (AC)
WR-PHD Pin Header, SMT, pitch 2mm, Dual Row, Vertical, 10p; Manufacturer: Wurth Elektronik; Manufacturer Part Number: 621010245821; Pin Number: 10; Working Voltage: 200VAC; Withstanding Voltage: 500VAC; Contact Resistance: 20mOhm; ComponentLink1Description: Datasheet; ComponentLink1URL: https://www.we-online.com/catalog/datasheet/621010245821.pdf; Pitch: 2mm; Packaging: Tube; Gender: Pin Header; Rated Current: 2A; Row Number: Dual; Orientation: Vertical; Supplier 1 URL: N/A; Supplier 2 URL: N/A; Supplier 3 URL: N/A; LCSC Part #: N/A; Mount: SMD/SMT; Operating Temperature Max: + 105 C; Operating Temperature Min: - 40 C; Supplier 1: Mouser; Supplier 1 Part Number: N/A; Supplier 2: Digi-Key; Supplier 2 Part Number: N/A; Supplier 3: thegioiic; Supplier 3 Part Number: N/A; Value: 2A, 200 V (AC)
footprint 621010245821
pins: 1, 2, 3, 4, 5, 6, 7, 8, 9, 10

## 621014245821
designator P?, comment 2A, 200 V (AC)
WR-PHD Pin Header, SMT, pitch 2mm, Dual Row, Vertical, 14p; Manufacturer: Wurth Elektronik; Manufacturer Part Number: 621014245821; Pin Number: 14; Working Voltage: 200VAC; Withstanding Voltage: 500VAC; Contact Resistance: 20mOhm; ComponentLink1Description: Datasheet; ComponentLink1URL: https://www.we-online.com/catalog/datasheet/621014245821.pdf; Pitch: 2mm; Packaging: Tube; Gender: Pin Header; Rated Current: 2A; Row Number: Dual; Orientation: Vertical; Supplier 1 URL: N/A; Supplier 2 URL: N/A; Supplier 3 URL: N/A; LCSC Part #: N/A; Mount: SMD/SMT; Operating Temperature Max: + 105 C; Operating Temperature Min: - 40 C; Supplier 1: Mouser; Supplier 1 Part Number: N/A; Supplier 2: Digi-Key; Supplier 2 Part Number: N/A; Supplier 3: thegioiic; Supplier 3 Part Number: N/A; Value: 2A, 200 V (AC)
footprint 621014245821
pins: 1, 2, 3, 4, 5, 6, 7, 8, 9, 10, 11, 12, 13, 14

## 621016245821
designator P?, comment 2A, 200 V (AC)
WR-PHD Pin Header, SMT, pitch 2mm, Dual Row, Vertical, 16p; Manufacturer: Wurth Elektronik; Manufacturer Part Number: 621016245821; Pin Number: 16; Working Voltage: 200VAC; Withstanding Voltage: 500VAC; Contact Resistance: 20mOhm; ComponentLink1Description: Datasheet; ComponentLink1URL: https://www.we-online.com/catalog/datasheet/621016245821.pdf; Pitch: 2mm; Packaging: Tube; Gender: Pin Header; Rated Current: 2A; Row Number: Dual; Orientation: Vertical; Supplier 1 URL: N/A; Supplier 2 URL: N/A; Supplier 3 URL: N/A; LCSC Part #: N/A; Mount: SMD/SMT; Operating Temperature Max: + 105 C; Operating Temperature Min: - 40 C; Supplier 1: Mouser; Supplier 1 Part Number: N/A; Supplier 2: Digi-Key; Supplier 2 Part Number: N/A; Supplier 3: thegioiic; Supplier 3 Part Number: N/A; Value: 2A, 200 V (AC)
footprint 621016245821
pins: 1, 2, 3, 4, 5, 6, 7, 8, 9, 10, 11, 12, 13, 14, 15, 16

## 621020245821
designator P?, comment 2A, 200 V (AC)
WR-PHD Pin Header, SMT, pitch 2mm, Dual Row, Vertical, 20p; Manufacturer: Wurth Elektronik; Manufacturer Part Number: 621020245821; Pin Number: 20; Working Voltage: 200VAC; Withstanding Voltage: 500VAC; Contact Resistance: 20mOhm; ComponentLink1Description: Datasheet; ComponentLink1URL: https://www.we-online.com/catalog/datasheet/621020245821.pdf; Pitch: 2mm; Packaging: Tube; Gender: Pin Header; Rated Current: 2A; Row Number: Dual; Orientation: Vertical; Supplier 1 URL: N/A; Supplier 2 URL: N/A; Supplier 3 URL: N/A; LCSC Part #: N/A; Mount: SMD/SMT; Operating Temperature Max: + 105 C; Operating Temperature Min: - 40 C; Supplier 1: Mouser; Supplier 1 Part Number: N/A; Supplier 2: Digi-Key; Supplier 2 Part Number: N/A; Supplier 3: thegioiic; Supplier 3 Part Number: N/A; Value: 2A, 200 V (AC)
footprint 621020245821
pins: 1, 2, 3, 4, 5, 6, 7, 8, 9, 10, 11, 12, 13, 14, 15, 16, 17, 18, 19, 20

## 621024245821
designator P?, comment 2A, 200 V (AC)
WR-PHD Pin Header, SMT, pitch 2mm, Dual Row, Vertical, 24p; Manufacturer: Wurth Elektronik; Manufacturer Part Number: 621024245821; Pin Number: 24; Working Voltage: 200VAC; Withstanding Voltage: 500VAC; Contact Resistance: 20mOhm; ComponentLink1Description: Datasheet; ComponentLink1URL: https://www.we-online.com/catalog/datasheet/621024245821.pdf; Pitch: 2mm; Packaging: Tube; Gender: Pin Header; Rated Current: 2A; Row Number: Dual; Orientation: Vertical; Supplier 1 URL: N/A; Supplier 2 URL: N/A; Supplier 3 URL: N/A; LCSC Part #: N/A; Mount: SMD/SMT; Operating Temperature Max: + 105 C; Operating Temperature Min: - 40 C; Supplier 1: Mouser; Supplier 1 Part Number: N/A; Supplier 2: Digi-Key; Supplier 2 Part Number: N/A; Supplier 3: thegioiic; Supplier 3 Part Number: N/A; Value: 2A, 200 V (AC)
footprint 621024245821
pins: 1, 2, 3, 4, 5, 6, 7, 8, 9, 10, 11, 12, 13, 14, 15, 16, 17, 18, 19, 20, 21, 22, 23, 24

## 621304245821
designator P?, comment 2A, 200 V (AC)
WR-PHD Pin Header, SMT, pitch 2mm, Dual Row, Vertical, 4p; Manufacturer: Wurth Elektronik; Manufacturer Part Number: 621304245821; Pin Number: 4; Working Voltage: 200VAC; Withstanding Voltage: 500VAC; Contact Resistance: 20mOhm; ComponentLink1Description: Datasheet; ComponentLink1URL: https://www.we-online.com/catalog/datasheet/621304245821.pdf; Pitch: 2mm; Packaging: Tape and Reel; Gender: Pin Header; Rated Current: 2A; Row Number: Dual; Orientation: Vertical; Supplier 1 URL: N/A; Supplier 2 URL: N/A; Supplier 3 URL: N/A; LCSC Part #: N/A; Mount: SMD/SMT; Operating Temperature Max: + 105 C; Operating Temperature Min: - 40 C; Supplier 1: Mouser; Supplier 1 Part Number: N/A; Supplier 2: Digi-Key; Supplier 2 Part Number: N/A; Supplier 3: thegioiic; Supplier 3 Part Number: N/A; Value: 2A, 200 V (AC)
footprint 621304245821
pins: 1, 2, 3, 4

## 621304284521
designator P?, comment 2A, 200 V (AC)
WR-PHD Pin Header, SMT, pitch 2mm, Dual Row, Angled, 4p; Manufacturer: Wurth Elektronik; Manufacturer Part Number: 621304284521; Pin Number: 4; Working Voltage: 200VAC; Withstanding Voltage: 500VAC; Contact Resistance: 20mOhm; ComponentLink1Description: Datasheet; ComponentLink1URL: https://www.we-online.com/catalog/datasheet/621304284521.pdf; Pitch: 2mm; Packaging: Tape and Reel; Gender: Pin Header; Rated Current: 2A; Row Number: Dual; Orientation: Angled; Supplier 1 URL: N/A; Supplier 2 URL: N/A; Supplier 3 URL: N/A; LCSC Part #: N/A; Mount: SMD/SMT; Operating Temperature Max: + 105 C; Operating Temperature Min: - 40 C; Supplier 1: Mouser; Supplier 1 Part Number: N/A; Supplier 2: Digi-Key; Supplier 2 Part Number: N/A; Supplier 3: thegioiic; Supplier 3 Part Number: N/A; Value: 2A, 200 V (AC)
footprint 621304284521
pins: 1, 2, 3, 4

## 621306245821
designator P?, comment 2A, 200 V (AC)
WR-PHD Pin Header, SMT, pitch 2mm, Dual Row, Vertical, 6p; Manufacturer: Wurth Elektronik; Manufacturer Part Number: 621306245821; Pin Number: 6; Working Voltage: 200VAC; Withstanding Voltage: 500VAC; Contact Resistance: 20mOhm; ComponentLink1Description: Datasheet; ComponentLink1URL: https://www.we-online.com/catalog/datasheet/621306245821.pdf; Pitch: 2mm; Packaging: Tape and Reel; Gender: Pin Header; Rated Current: 2A; Row Number: Dual; Orientation: Vertical; Supplier 1 URL: N/A; Supplier 2 URL: N/A; Supplier 3 URL: N/A; LCSC Part #: N/A; Mount: SMD/SMT; Operating Temperature Max: + 105 C; Operating Temperature Min: - 40 C; Supplier 1: Mouser; Supplier 1 Part Number: N/A; Supplier 2: Digi-Key; Supplier 2 Part Number: N/A; Supplier 3: thegioiic; Supplier 3 Part Number: N/A; Value: 2A, 200 V (AC)
footprint 621306245821
pins: 1, 2, 3, 4, 5, 6

## 621306284521
designator P?, comment 2A, 200 V (AC)
WR-PHD Pin Header, SMT, pitch 2mm, Dual Row, Angled, 6p; Manufacturer: Wurth Elektronik; Manufacturer Part Number: 621306284521; Pin Number: 6; Working Voltage: 200VAC; Withstanding Voltage: 500VAC; Contact Resistance: 20mOhm; ComponentLink1Description: Datasheet; ComponentLink1URL: https://www.we-online.com/catalog/datasheet/621306284521.pdf; Pitch: 2mm; Packaging: Tape and Reel; Gender: Pin Header; Rated Current: 2A; Row Number: Dual; Orientation: Angled; Supplier 1 URL: N/A; Supplier 2 URL: N/A; Supplier 3 URL: N/A; LCSC Part #: N/A; Mount: SMD/SMT; Operating Temperature Max: + 105 C; Operating Temperature Min: - 40 C; Supplier 1: Mouser; Supplier 1 Part Number: N/A; Supplier 2: Digi-Key; Supplier 2 Part Number: N/A; Supplier 3: thegioiic; Supplier 3 Part Number: N/A; Value: 2A, 200 V (AC)
footprint 621306284521
pins: 1, 2, 3, 4, 5, 6

## 621308245821
designator P?, comment 2A, 200 V (AC)
WR-PHD Pin Header, SMT, pitch 2mm, Dual Row, Vertical, 8p; Manufacturer: Wurth Elektronik; Manufacturer Part Number: 621308245821; Pin Number: 8; Working Voltage: 200VAC; Withstanding Voltage: 500VAC; Contact Resistance: 20mOhm; ComponentLink1Description: Datasheet; ComponentLink1URL: https://www.we-online.com/catalog/datasheet/621308245821.pdf; Pitch: 2mm; Packaging: Tape and Reel; Gender: Pin Header; Rated Current: 2A; Row Number: Dual; Orientation: Vertical; Supplier 1 URL: N/A; Supplier 2 URL: N/A; Supplier 3 URL: N/A; LCSC Part #: N/A; Mount: SMD/SMT; Operating Temperature Max: + 105 C; Operating Temperature Min: - 40 C; Supplier 1: Mouser; Supplier 1 Part Number: N/A; Supplier 2: Digi-Key; Supplier 2 Part Number: N/A; Supplier 3: thegioiic; Supplier 3 Part Number: N/A; Value: 2A, 200 V (AC)
footprint 621308245821
pins: 1, 2, 3, 4, 5, 6, 7, 8

## 621308284521
designator P?, comment 2A, 200 V (AC)
WR-PHD Pin Header, SMT, pitch 2mm, Dual Row, Angled, 8p; Manufacturer: Wurth Elektronik; Manufacturer Part Number: 621308284521; Pin Number: 8; Working Voltage: 200VAC; Withstanding Voltage: 500VAC; Contact Resistance: 20mOhm; ComponentLink1Description: Datasheet; ComponentLink1URL: https://www.we-online.com/catalog/datasheet/621308284521.pdf; Pitch: 2mm; Packaging: Tape and Reel; Gender: Pin Header; Rated Current: 2A; Row Number: Dual; Orientation: Angled; Supplier 1 URL: N/A; Supplier 2 URL: N/A; Supplier 3 URL: N/A; LCSC Part #: N/A; Mount: SMD/SMT; Operating Temperature Max: + 105 C; Operating Temperature Min: - 40 C; Supplier 1: Mouser; Supplier 1 Part Number: N/A; Supplier 2: Digi-Key; Supplier 2 Part Number: N/A; Supplier 3: thegioiic; Supplier 3 Part Number: N/A; Value: 2A, 200 V (AC)
footprint 621308284521
pins: 1, 2, 3, 4, 5, 6, 7, 8